# EAGLE library part ACPL-C87A (library SAE_2019)
ACPL-C87A-500E Broadcom - Precision Optically Isolated Voltage Sensor
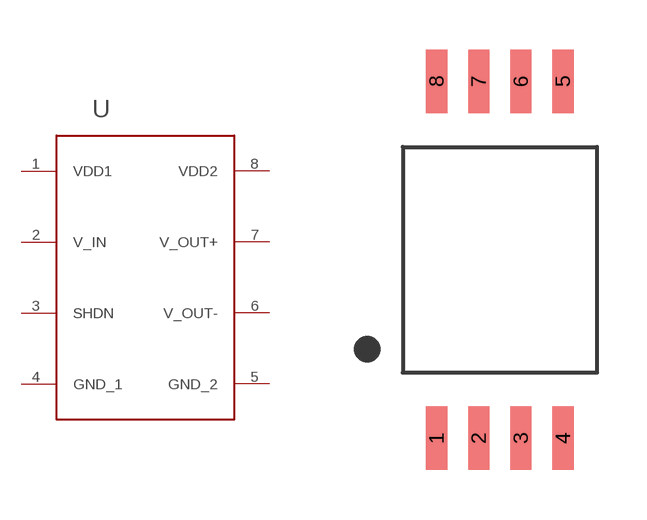
[diagram p1: symbol with the pads of SSO-8; footprint SSO-8]

Designator prefix -

## ACPL-C87A  [SSO-8]
1  VDD1  pwr
2  V_IN  in
3  SHDN  in
4  GND_1  pwr
5  GND_2  pwr
6  V_OUT-  out
7  V_OUT+  out
8  VDD2  pwr

## Footprint SSO-8 (pad centres in mm)
SSO-8 (Stretched SO-8)
smd 0.64 x 1.905: 1 -1.905,-5.38; 2 -0.635,-5.38; 3 0.635,-5.38; 4 1.905,-5.38; 5 1.905,5.38; 6 0.635,5.38; 7 -0.635,5.38; 8 -1.905,5.38